# Altium integrated library JRC4558D.IntLib: 1 symbol
Pins are listed as number, name and electrical type; pins without a type are passive.

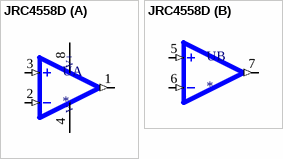
[diagram p0: symbol JRC4558D]

## JRC4558D
designator U
Dip8; MP: JRC4558D; MF: New Japan Radio; Availability: Unavailable; SnapEDA_Link: https://www.snapeda.com/parts/JRC4558D/New%20Japan%20Radio/view-part/424120/?ref=snap; Price: None; Package: DIP-8 New Japan Radio; Value: *
footprint DIP762W46P254L880H425Q8
part A pins: 1 OUT (out), 2 -IN (in), 3 +IN (in), 4 V- (power), 8 V+ (power)
part B pins: 5 +IN (in), 6 -IN (in), 7 OUT (out)